# EAGLE library part CT512 (library relay-custom)
ULTRA SMALL AUTOMOTIVE RELAY NAiS Twin type (10 terminals) en_ds_61205_0000.pdf
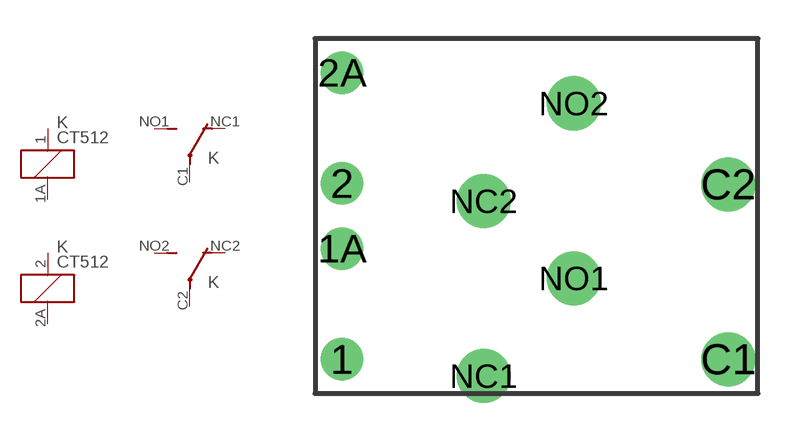
[diagram p85: symbol with the pads of CT2-TWIN; footprint CT2-TWIN]

Designator prefix K; gates A=K B=K A1=U B1=U

## CT512 (OC_FARNELL: unknown; OC_NEWARK: unknown)  [CT2-TWIN]
1  A:1  pas
1A  A:2  pas
2  B:1  pas
2A  B:2  pas
C1  A1:P  pas
C2  B1:P  pas
NC1  A1:O  pas
NC2  B1:O  pas
NO1  A1:S  pas
NO2  B1:S  pas

## Footprint CT2-TWIN (pad centres in mm)
ULTRA SMALL AUTOMOTIVE RELAY NAiS Twin type (10 terminals) Source: http://www.mew-europe.com/.. en_ds_61205_0000.pdf
drill 1.1: 1 -7.45,-5.57; 1A -7.45,-1.27; 2 -7.45,1.27; 2A -7.45,5.57
drill 1.4: C1 7.55,-5.57; C2 7.55,1.23; NC1 -1.95,-6.22; NC2 -1.95,0.58; NO1 1.55,-2.42; NO2 1.55,4.38